# Altium footprint library FootprintLib.PcbLib: 194 footprints (part 3 of 13)
Each footprint in its own frame and in the unit in brackets; x right, y up, seen from the top. Pads: shape width x height; smd on the part's side, far side on the other; paste and mask are expansions set on the pad; w line width, h text height; cw(c..) or ccw(c..) is an arc to the next point about the centre after c.
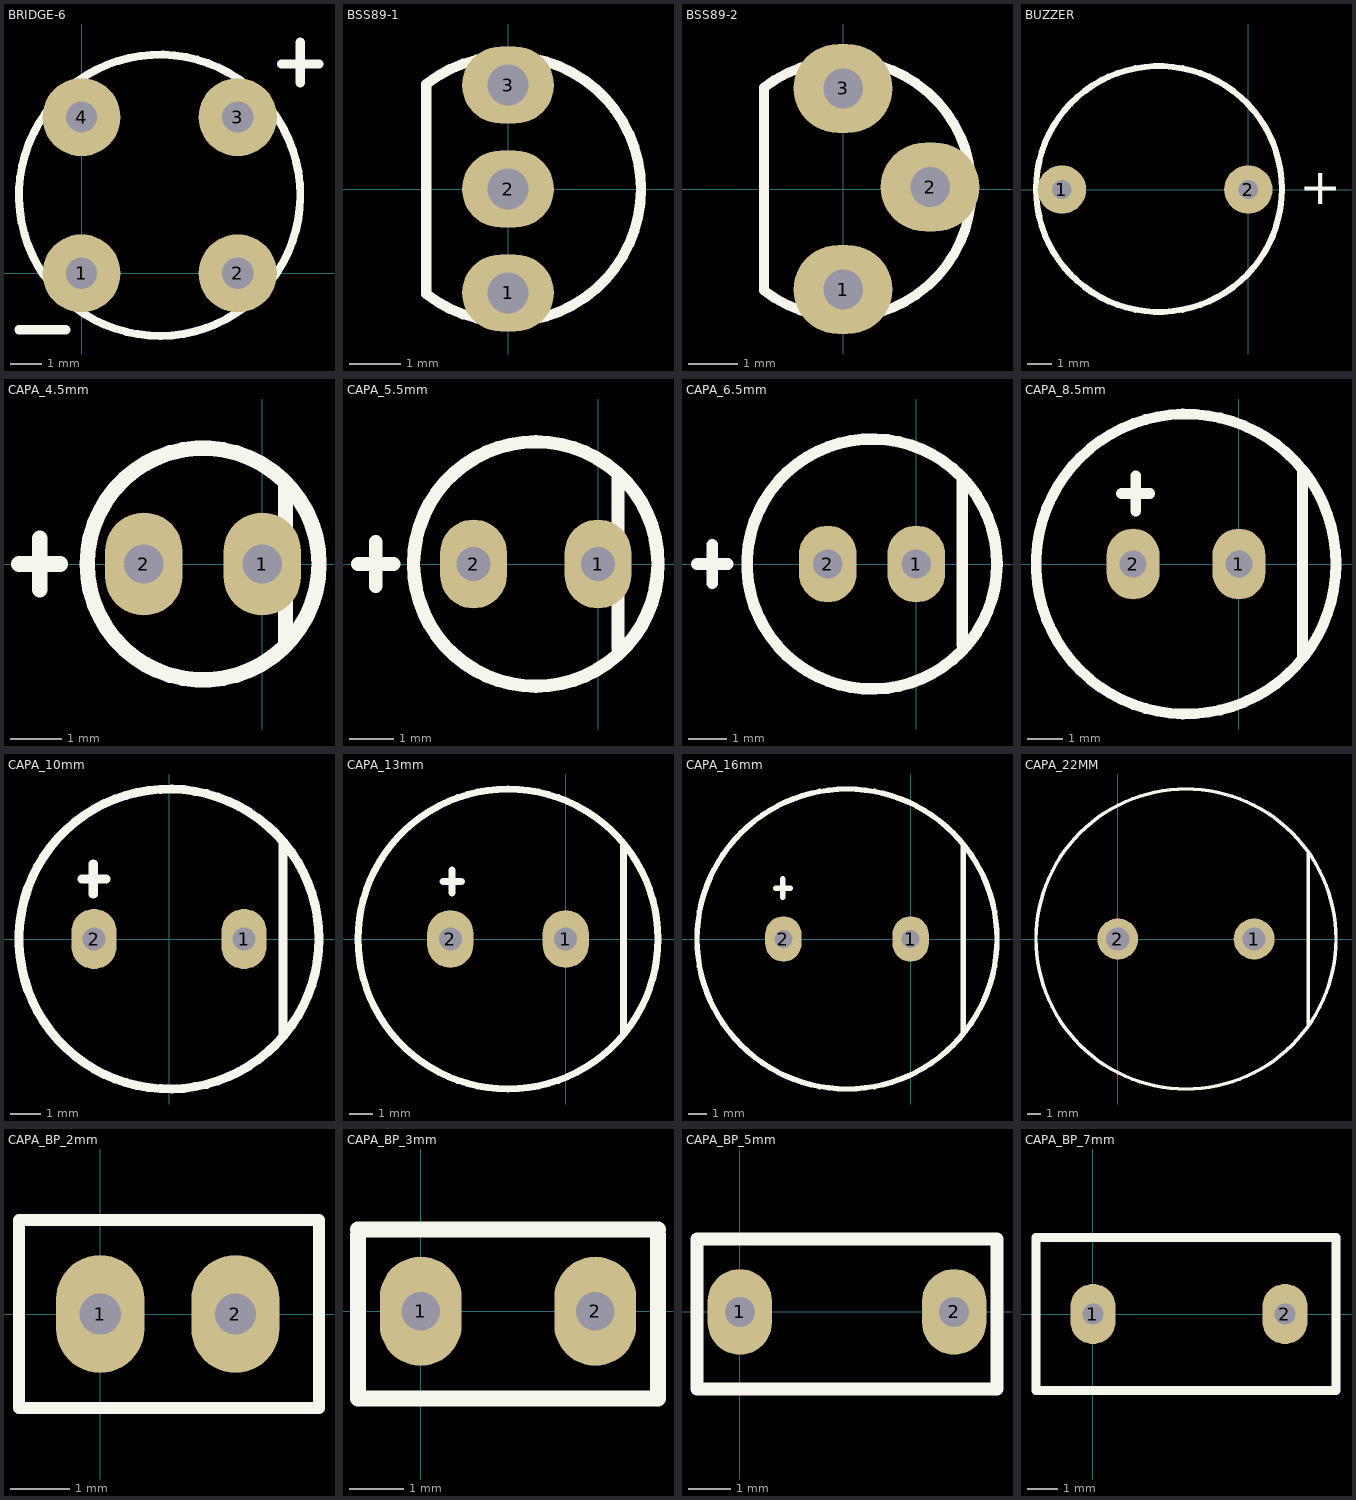
[diagram p2: the footprints below, top view; thin cyan lines are the x and y axes]

## BRIDGE-6 [mm]
pads (4):
  round 2.5 hole 1: 1(0,0) 2(5,0) 3(5,5) 4(0,5)
Top Overlay:
  lines w0.254: 6.999,2.417 cw(c2.5,2.5) 7,2.5
  lines w0.3: -2,-1.8 -0.5,-1.8 ; 6.4,6.7 7.6,6.7 ; 7,6.1 7,7.4

## BSS89-1 [mm]
pads (3):
  oval 1.8x1.5 hole 0.8: 1(0,-2.032) 2(0,0) 3(0,2.032)
Top Overlay:
  lines w0.2: -1.601,-2.049 ccw(c0,0) -1.601,2.049 ; -1.6,-1.99 -1.6,1.99

## BSS89-2 [mm]
pads (3):
  oval 2x1.8 hole 0.8: 1(0,-2.032) 2(1.76,0.04) 3(0,2.032)
Top Overlay:
  lines w0.2: -1.601,-2.049 ccw(c0,0) -1.601,2.049 ; -1.6,-1.99 -1.6,1.99

## BUZZER [mm]
pads (2):
  round 2 hole 0.8: 1(-7.7,0) 2(0,0)
Top Overlay:
  circle w0.254: c-3.691,0.021 r5.08
  text "+" at 2.1,-0.6 h1.52

## CAPA_4.5mm [mm]
pads (2):
  oval 1.5x2 hole 0.762: 1(0,0) 2(-2.3,0)
Top Overlay:
  circle w0.3: c-1.15,0 r2.25
  lines w0.3: 0.45,-1.5 0.45,1.5
  lines w0.305: -4.724,0 -3.924,0 ; -4.324,-0.5 -4.324,0.5

## CAPA_5.5mm [mm]
pads (2):
  oval 1.5x2 hole 0.762: 1(0,0) 2(-2.8,0)
Top Overlay:
  circle w0.3: c-1.4,0 r2.75
  lines w0.3: 0.45,-1.9 0.45,2
  lines w0.305: -5.4,0 -4.6,0 ; -5,-0.5 -5,0.5

## CAPA_6.5mm [mm]
pads (2):
  oval 1.5x2 hole 0.762: 1(0,0) 2(-2.3,0)
Top Overlay:
  circle w0.3: c-1.15,0 r3.25
  lines w0.3: 1.2,-2.1 1.2,2.2
  lines w0.305: -5.7,0 -4.9,0 ; -5.3,-0.5 -5.3,0.5

## CAPA_8.5mm [mm]
pads (2):
  oval 1.5x2 hole 0.762: 1(0,0) 2(-3,0)
Top Overlay:
  circle w0.3: c-1.5,0 r4.25
  lines w0.3: 1.8,-2.6 1.8,2.6
  lines w0.305: -3.324,2 -2.524,2 ; -2.924,1.5 -2.924,2.5

## CAPA_10mm [mm]
pads (2):
  oval 1.5x2 hole 0.762: 1(2.5,0) 2(-2.5,0)
Top Overlay:
  circle w0.3: c0,0 r5
  lines w0.3: 3.8,-3.2 3.8,3.2
  lines w0.305: -2.9,2 -2.1,2 ; -2.524,1.5 -2.524,2.5

## CAPA_13mm [mm]
pads (2):
  oval 2x2.5 hole 1: 1(0,0) 2(-5,0)
Top Overlay:
  circle w0.3: c-2.5,0 r6.5
  lines w0.3: 2.5,-4.1 2.5,4.1
  lines w0.305: -5.324,2.5 -4.524,2.5 ; -4.924,2 -4.924,3

## CAPA_16mm [mm]
pads (2):
  oval 2x2.5 hole 1: 1(0,0) 2(-7,0)
Top Overlay:
  circle w0.3: c-3.5,0 r8.25
  lines w0.3: 2.9,-5.2 2.9,5.1
  lines w0.305: -7.424,2.8 -6.624,2.8 ; -7.024,2.3 -7.024,3.3

## CAPA_22MM [mm]
height 25
pads (2):
  round 3 hole 1.7: 1(10,0) 2(0,0)
Top Overlay:
  circle w0.254: c5.002,0 r11
  lines w0.254: 13.97,-6.35 13.97,6.35

## CAPA_BP_2mm [mm]
pads (2):
  oval 1.5x2 hole 0.7: 1(0,0) 2(2.3,0)
Top Overlay:
  lines w0.2: -1.38,-1.6 -1.38,1.6 3.72,1.6 3.72,-1.6 -1.38,-1.6

## CAPA_BP_3mm [mm]
pads (2):
  oval 1.5x2 hole 0.7: 1(0,0) 2(3.2,0)
Top Overlay:
  lines w0.3: -1.15,1.4 -1.15,-1.6 4.35,-1.6 4.35,1.4 ; -1.15,1.5 4.35,1.5

## CAPA_BP_5mm [mm]
pads (2):
  oval 1.5x2 hole 0.7: 1(0,0) 2(5,0)
Top Overlay:
  lines w0.3: -1,-1.8 -1,1.7 6,1.7 6,-1.8 -1,-1.8

## CAPA_BP_7mm [mm]
pads (2):
  oval 1.5x2 hole 0.7: 1(0,0) 2(6.4,0)
Top Overlay:
  lines w0.3: -1.9,2.45 -1.9,-2.55 8.1,-2.55 8.1,2.45 ; -1.9,2.55 8.1,2.55